# EAGLE library part ML8511 (library awqua_eagle_library)
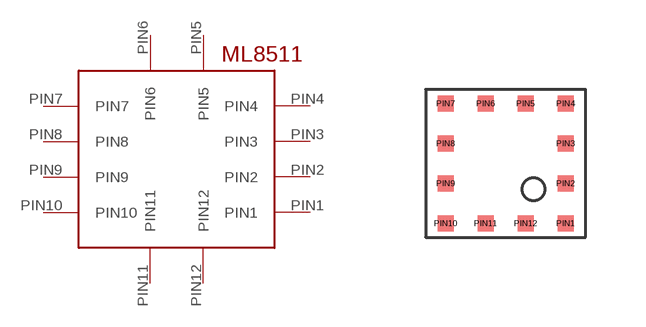
[diagram p12: symbol with the pads of ML8511; footprint ML8511]

Designator prefix -

## ML8511  [ML8511]
PIN1  PIN1
PIN2  PIN2
PIN3  PIN3
PIN4  PIN4
PIN5  PIN5
PIN6  PIN6
PIN7  PIN7
PIN8  PIN8
PIN9  PIN9
PIN10  PIN10
PIN11  PIN11
PIN12  PIN12

## Footprint ML8511 (pad centres in mm)
smd 0.4 x 0.4: PIN1 3.5,0.35; PIN2 3.5,1.35; PIN3 3.5,2.35; PIN4 3.5,3.35; PIN5 2.5,3.35; PIN6 1.5,3.35; PIN7 0.5,3.35; PIN8 0.5,2.35; PIN9 0.5,1.35; PIN10 0.5,0.35; PIN11 1.5,0.35; PIN12 2.5,0.35